# Altium footprint library USB-A-Femal.PcbLib: 1 footprints
Each footprint in its own frame and in the unit in brackets; x right, y up, seen from the top. Pads: shape width x height; smd on the part's side, far side on the other; paste and mask are expansions set on the pad; w line width, h text height; cw(c..) or ccw(c..) is an arc to the next point about the centre after c.
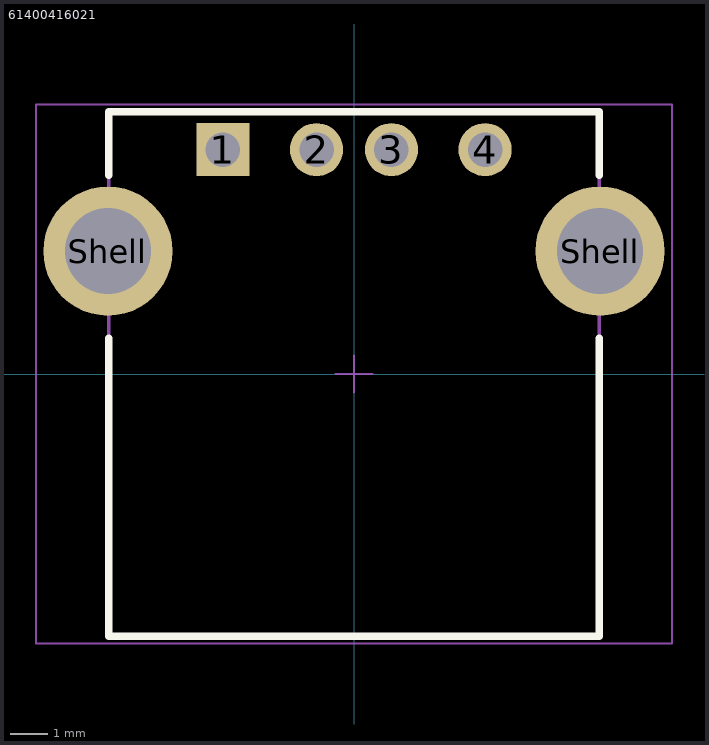
[diagram p0: the footprint, top view; thin cyan lines are the x and y axes]

## 61400416021 [mm] "USB 2.0 Type A Horizontal"
height 6.9
pads (6):
  rect 1.42x1.42 hole 0.92: 1(-3.5,5.99)
  round 1.42 hole 0.92: 2(-1,5.99) 3(1,5.99) 4(3.5,5.99)
  round 3.45 hole 2.3: Shell(-6.57,3.28) Shell(6.57,3.28)
Top Overlay:
  lines w0.2: -6.55,0.96 -6.55,-7 6.53,-7 ; -6.55,5.3 -6.55,7 6.55,7 6.55,5.3 ; 6.55,-7 6.55,0.96
Top Component Outline:
  lines w0.1: -6.55,-7 6.55,-7 6.55,7 -6.55,7 -6.55,-7
Top 3D Body:
  lines w0.1: -6.55,-7 -6.55,7 6.55,7 6.55,-7 -6.55,-7
Top Courtyard:
  lines w0.05: -0.5,0 0.5,0 ; 0,-0.5 0,0.5 ; -8.495,-7.2 8.495,-7.2 8.495,7.2 -8.495,7.2 -8.495,-7.2
3D body "61400416021.stp": height 7.63, standoff -4.06, extent -7.999,-7 7.999,7